# Altium schematic symbol library RELAY-A.SchLib: 1 symbol
Pins are listed as number, name and electrical type; pins without a type are passive.

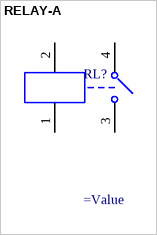
[diagram p0: symbol RELAY-A]

## RELAY-A
designator RL?
=Description
pins: 1, 2, 3 NO, 4 COM